# Altium schematic symbol library WCAP-HSG5.SchLib: 27 symbols
Pins are listed as number, name and electrical type; pins without a type are passive.

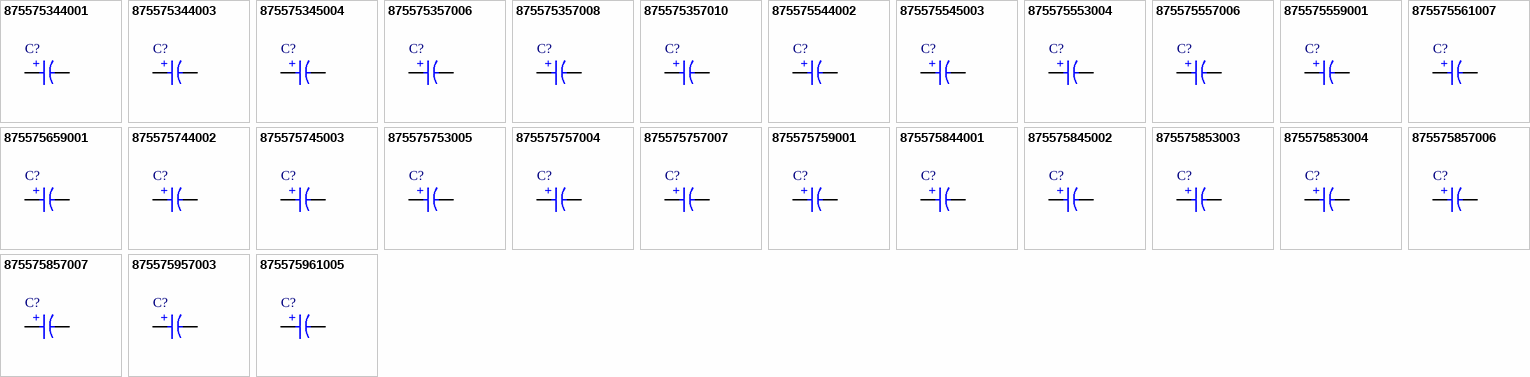
[diagram p0: symbols 875575344001 to 875575961005]

## 875575344001
designator C?, comment 100uF  (value not drawn)
WCAP-HSG5 Aluminum Hybrid Polymer Capacitor, SMT, D6.3 x H5.8 mm, 100uF, 16V; Manufacturer Part Number: 875575344001; Manufacturer: Wurth Elektronik; Dissipation Factor: 16%; Endurance: 10000h; ESR: 50mOhm; Leakage Current: 16uA; Ripple Current: 1300mA; Category: Aluminum Hybrid Polymer Capacitors; Match Code: WCAP-HSG5; ComponentLink1Description: Website Link; ComponentLink1URL: https://www.we-online.com/redexpert/article/875575344001?ad; ComponentLink2Description: Datasheet Link; ComponentLink2URL: https://www.we-online.com/redexpert/spec/875575344001?ad; Mount: Surface Mount; Min Operating Temperature: -55°C; Max Operating Temperature: 105°C; Packaging: Tape and Reel; Case/Size Code: D6.3 x H5.8 mm; Height: 5.8mm; Diameter: 6.3mm; Capacitance: 100uF; Rated Voltage (DC): 16V
footprint WCAP-HSG5_D6.3H5.8
simulation model 875575344001_100uF
pins: 1 P, 2 N
text: +

## 875575344003
designator C?, comment 150uF  (value not drawn)
WCAP-HSG5 Aluminum Hybrid Polymer Capacitor, SMT, D6.3 x H5.8 mm, 150uF, 16V; Manufacturer Part Number: 875575344003; Manufacturer: Wurth Elektronik; Dissipation Factor: 16%; Endurance: 10000h; ESR: 50mOhm; Leakage Current: 24uA; Ripple Current: 1300mA; Category: Aluminum Hybrid Polymer Capacitors; Match Code: WCAP-HSG5; ComponentLink1Description: Website Link; ComponentLink1URL: https://www.we-online.com/redexpert/article/875575344003?ad; ComponentLink2Description: Datasheet Link; ComponentLink2URL: https://www.we-online.com/redexpert/spec/875575344003?ad; Mount: Surface Mount; Min Operating Temperature: -55°C; Max Operating Temperature: 105°C; Packaging: Tape and Reel; Case/Size Code: D6.3 x H5.8 mm; Height: 5.8mm; Diameter: 6.3mm; Capacitance: 150uF; Rated Voltage (DC): 16V
footprint WCAP-HSG5_D6.3H5.8
simulation model 875575344003_150uF
pins: 1 P, 2 N
text: +

## 875575345004
designator C?, comment 220uF  (value not drawn)
WCAP-HSG5 Aluminum Hybrid Polymer Capacitor, SMT, D6.3 x H7.7 mm, 220uF, 16V; Manufacturer Part Number: 875575345004; Manufacturer: Wurth Elektronik; Dissipation Factor: 16%; Endurance: 10000h; ESR: 30mOhm; Leakage Current: 35.2uA; Ripple Current: 2000mA; Category: Aluminum Hybrid Polymer Capacitors; Match Code: WCAP-HSG5; ComponentLink1Description: Website Link; ComponentLink1URL: https://www.we-online.com/redexpert/article/875575345004?ad; ComponentLink2Description: Datasheet Link; ComponentLink2URL: https://www.we-online.com/redexpert/spec/875575345004?ad; Mount: Surface Mount; Min Operating Temperature: -55°C; Max Operating Temperature: 105°C; Packaging: Tape and Reel; Case/Size Code: D6.3 x H7.7 mm; Height: 7.7mm; Diameter: 6.3mm; Capacitance: 220uF; Rated Voltage (DC): 16V
footprint WCAP-HSG5_D6.3H7.7
simulation model 875575345004_220uF
pins: 1 P, 2 N
text: +

## 875575357006
designator C?, comment 330uF  (value not drawn)
WCAP-HSG5 Aluminum Hybrid Polymer Capacitor, SMT, D10 x H10.5 mm, 330uF, 16V; Manufacturer Part Number: 875575357006; Manufacturer: Wurth Elektronik; Dissipation Factor: 16%; Endurance: 10000h; ESR: 20mOhm; Leakage Current: 52.8uA; Ripple Current: 2500mA; Category: Aluminum Hybrid Polymer Capacitors; Match Code: WCAP-HSG5; ComponentLink1Description: Website Link; ComponentLink1URL: https://www.we-online.com/redexpert/article/875575357006?ad; ComponentLink2Description: Datasheet Link; ComponentLink2URL: https://www.we-online.com/redexpert/spec/875575357006?ad; Mount: Surface Mount; Min Operating Temperature: -55°C; Max Operating Temperature: 105°C; Packaging: Tape and Reel; Case/Size Code: D10 x H10.5 mm; Height: 10.5mm; Diameter: 10mm; Capacitance: 330uF; Rated Voltage (DC): 16V
footprint WCAP-HSG5_D10H10.5
simulation model 875575357006_330uF
pins: 1 P, 2 N
text: +

## 875575357008
designator C?, comment 470uF  (value not drawn)
WCAP-HSG5 Aluminum Hybrid Polymer Capacitor, SMT, D10 x H10.5 mm, 470uF, 16V; Manufacturer Part Number: 875575357008; Manufacturer: Wurth Elektronik; Dissipation Factor: 16%; Endurance: 10000h; ESR: 20mOhm; Leakage Current: 75.2uA; Ripple Current: 2500mA; Category: Aluminum Hybrid Polymer Capacitors; Match Code: WCAP-HSG5; ComponentLink1Description: Website Link; ComponentLink1URL: https://www.we-online.com/redexpert/article/875575357008?ad; ComponentLink2Description: Datasheet Link; ComponentLink2URL: https://www.we-online.com/redexpert/spec/875575357008?ad; Mount: Surface Mount; Min Operating Temperature: -55°C; Max Operating Temperature: 105°C; Packaging: Tape and Reel; Case/Size Code: D10 x H10.5 mm; Height: 10.5mm; Diameter: 10mm; Capacitance: 470uF; Rated Voltage (DC): 16V
footprint WCAP-HSG5_D10H10.5
simulation model 875575357008_470uF
pins: 1 P, 2 N
text: +

## 875575357010
designator C?, comment 560uF  (value not drawn)
WCAP-HSG5 Aluminum Hybrid Polymer Capacitor, SMT, D10 x H10.5 mm, 560uF, 16V; Manufacturer Part Number: 875575357010; Manufacturer: Wurth Elektronik; Dissipation Factor: 16%; Endurance: 10000h; ESR: 20mOhm; Leakage Current: 89.6uA; Ripple Current: 2500mA; Category: Aluminum Hybrid Polymer Capacitors; Match Code: WCAP-HSG5; ComponentLink1Description: Website Link; ComponentLink1URL: https://www.we-online.com/redexpert/article/875575357010?ad; ComponentLink2Description: Datasheet Link; ComponentLink2URL: https://www.we-online.com/redexpert/spec/875575357010?ad; Mount: Surface Mount; Min Operating Temperature: -55°C; Max Operating Temperature: 105°C; Packaging: Tape and Reel; Case/Size Code: D10 x H10.5 mm; Height: 10.5mm; Diameter: 10mm; Capacitance: 560uF; Rated Voltage (DC): 16V
footprint WCAP-HSG5_D10H10.5
simulation model 875575357010_560uF
pins: 1 P, 2 N
text: +

## 875575544002
designator C?, comment 56uF  (value not drawn)
WCAP-HSG5 Aluminum Hybrid Polymer Capacitor, SMT, D6.3 x H5.8 mm, 56uF, 25V; Manufacturer Part Number: 875575544002; Manufacturer: Wurth Elektronik; Dissipation Factor: 14%; Endurance: 10000h; ESR: 50mOhm; Leakage Current: 14uA; Ripple Current: 1300mA; Category: Aluminum Hybrid Polymer Capacitors; Match Code: WCAP-HSG5; ComponentLink1Description: Website Link; ComponentLink1URL: https://www.we-online.com/redexpert/article/875575544002?ad; ComponentLink2Description: Datasheet Link; ComponentLink2URL: https://www.we-online.com/redexpert/spec/875575544002?ad; Mount: Surface Mount; Min Operating Temperature: -55°C; Max Operating Temperature: 105°C; Packaging: Tape and Reel; Case/Size Code: D6.3 x H5.8 mm; Height: 5.8mm; Diameter: 6.3mm; Capacitance: 56uF; Rated Voltage (DC): 25V
footprint WCAP-HSG5_D6.3H5.8
simulation model 875575544002_56uF
pins: 1 P, 2 N
text: +

## 875575545003
designator C?, comment 100uF  (value not drawn)
WCAP-HSG5 Aluminum Hybrid Polymer Capacitor, SMT, D6.3 x H7.7 mm, 100uF, 25V; Manufacturer Part Number: 875575545003; Manufacturer: Wurth Elektronik; Dissipation Factor: 14%; Endurance: 10000h; ESR: 30mOhm; Leakage Current: 25uA; Ripple Current: 2000mA; Category: Aluminum Hybrid Polymer Capacitors; Match Code: WCAP-HSG5; ComponentLink1Description: Website Link; ComponentLink1URL: https://www.we-online.com/redexpert/article/875575545003?ad; ComponentLink2Description: Datasheet Link; ComponentLink2URL: https://www.we-online.com/redexpert/spec/875575545003?ad; Mount: Surface Mount; Min Operating Temperature: -55°C; Max Operating Temperature: 105°C; Packaging: Tape and Reel; Case/Size Code: D6.3 x H7.7 mm; Height: 7.7mm; Diameter: 6.3mm; Capacitance: 100uF; Rated Voltage (DC): 25V
footprint WCAP-HSG5_D6.3H7.7
simulation model 875575545003_100uF
pins: 1 P, 2 N
text: +

## 875575553004
designator C?, comment 220uF  (value not drawn)
WCAP-HSG5 Aluminum Hybrid Polymer Capacitor, SMT, D8 x H10.5 mm, 220uF, 25V; Manufacturer Part Number: 875575553004; Manufacturer: Wurth Elektronik; Dissipation Factor: 14%; Endurance: 10000h; ESR: 27mOhm; Leakage Current: 55uA; Ripple Current: 2300mA; Category: Aluminum Hybrid Polymer Capacitors; Match Code: WCAP-HSG5; ComponentLink1Description: Website Link; ComponentLink1URL: https://www.we-online.com/redexpert/article/875575553004?ad; ComponentLink2Description: Datasheet Link; ComponentLink2URL: https://www.we-online.com/redexpert/spec/875575553004?ad; Mount: Surface Mount; Min Operating Temperature: -55°C; Max Operating Temperature: 105°C; Packaging: Tape and Reel; Case/Size Code: D8 x H10.5 mm; Height: 10.5mm; Diameter: 8mm; Capacitance: 220uF; Rated Voltage (DC): 25V
footprint WCAP-HSG5_D8H10.5
simulation model 875575553004_220uF
pins: 1 P, 2 N
text: +

## 875575557006
designator C?, comment 330uF  (value not drawn)
WCAP-HSG5 Aluminum Hybrid Polymer Capacitor, SMT, D10 x H10.5 mm, 330uF, 25V; Manufacturer Part Number: 875575557006; Manufacturer: Wurth Elektronik; Dissipation Factor: 14%; Endurance: 10000h; ESR: 20mOhm; Leakage Current: 82.5uA; Ripple Current: 2500mA; Category: Aluminum Hybrid Polymer Capacitors; Match Code: WCAP-HSG5; ComponentLink1Description: Website Link; ComponentLink1URL: https://www.we-online.com/redexpert/article/875575557006?ad; ComponentLink2Description: Datasheet Link; ComponentLink2URL: https://www.we-online.com/redexpert/spec/875575557006?ad; Mount: Surface Mount; Min Operating Temperature: -55°C; Max Operating Temperature: 105°C; Packaging: Tape and Reel; Case/Size Code: D10 x H10.5 mm; Height: 10.5mm; Diameter: 10mm; Capacitance: 330uF; Rated Voltage (DC): 25V
footprint WCAP-HSG5_D10H10.5
simulation model 875575557006_330uF
pins: 1 P, 2 N
text: +

## 875575559001
designator C?, comment 33uF  (value not drawn)
WCAP-HSG5 Aluminum Hybrid Polymer Capacitor, SMT, D5 x H5.8 mm, 33uF, 25V; Manufacturer Part Number: 875575559001; Manufacturer: Wurth Elektronik; Dissipation Factor: 14%; Endurance: 10000h; ESR: 80mOhm; Leakage Current: 8.3uA; Ripple Current: 900mA; Category: Aluminum Hybrid Polymer Capacitors; Match Code: WCAP-HSG5; ComponentLink1Description: Website Link; ComponentLink1URL: https://www.we-online.com/redexpert/article/875575559001?ad; ComponentLink2Description: Datasheet Link; ComponentLink2URL: https://www.we-online.com/redexpert/spec/875575559001?ad; Mount: Surface Mount; Min Operating Temperature: -55°C; Max Operating Temperature: 105°C; Packaging: Tape and Reel; Case/Size Code: D5 x H5.8 mm; Height: 5.8mm; Diameter: 5mm; Capacitance: 33uF; Rated Voltage (DC): 25V
footprint WCAP-HSG5_D5H5.8
simulation model 875575559001_33uF
pins: 1 P, 2 N
text: +

## 875575561007
designator C?, comment 470uF  (value not drawn)
WCAP-HSG5 Aluminum Hybrid Polymer Capacitor, SMT, D10 x H12.4 mm, 470uF, 25V; Manufacturer Part Number: 875575561007; Manufacturer: Wurth Elektronik; Dissipation Factor: 14%; Endurance: 10000h; ESR: 16mOhm; Leakage Current: 117.5uA; Ripple Current: 2800mA; Category: Aluminum Hybrid Polymer Capacitors; Match Code: WCAP-HSG5; ComponentLink1Description: Website Link; ComponentLink1URL: https://www.we-online.com/redexpert/article/875575561007?ad; ComponentLink2Description: Datasheet Link; ComponentLink2URL: https://www.we-online.com/redexpert/spec/875575561007?ad; Mount: Surface Mount; Min Operating Temperature: -55°C; Max Operating Temperature: 105°C; Packaging: Tape and Reel; Case/Size Code: D10 x H12.4 mm; Height: 12.4mm; Diameter: 10mm; Capacitance: 470uF; Rated Voltage (DC): 25V
footprint WCAP-HSG5_D10H12.4
simulation model 875575561007_470uF
pins: 1 P, 2 N
text: +

## 875575659001
designator C?, comment 22uF  (value not drawn)
WCAP-HSG5 Aluminum Hybrid Polymer Capacitor, SMT, D5 x H5.8 mm, 22uF, 35V; Manufacturer Part Number: 875575659001; Manufacturer: Wurth Elektronik; Dissipation Factor: 12%; Endurance: 10000h; ESR: 100mOhm; Leakage Current: 7.7uA; Ripple Current: 900mA; Category: Aluminum Hybrid Polymer Capacitors; Match Code: WCAP-HSG5; ComponentLink1Description: Website Link; ComponentLink1URL: https://www.we-online.com/redexpert/article/875575659001?ad; ComponentLink2Description: Datasheet Link; ComponentLink2URL: https://www.we-online.com/redexpert/spec/875575659001?ad; Mount: Surface Mount; Min Operating Temperature: -55°C; Max Operating Temperature: 105°C; Packaging: Tape and Reel; Case/Size Code: D5 x H5.8 mm; Height: 5.8mm; Diameter: 5mm; Capacitance: 22uF; Rated Voltage (DC): 35V
footprint WCAP-HSG5_D5H5.8
pins: 1 P, 2 N
text: +

## 875575744002
designator C?, comment 22uF  (value not drawn)
WCAP-HSG5 Aluminum Hybrid Polymer Capacitor, SMT, D6.3 x H5.8 mm, 22uF, 50V; Manufacturer Part Number: 875575744002; Manufacturer: Wurth Elektronik; Dissipation Factor: 10%; Endurance: 10000h; ESR: 80mOhm; Leakage Current: 11uA; Ripple Current: 1100mA; Category: Aluminum Hybrid Polymer Capacitors; Match Code: WCAP-HSG5; ComponentLink1Description: Website Link; ComponentLink1URL: https://www.we-online.com/redexpert/article/875575744002?ad; ComponentLink2Description: Datasheet Link; ComponentLink2URL: https://www.we-online.com/redexpert/spec/875575744002?ad; Mount: Surface Mount; Min Operating Temperature: -55°C; Max Operating Temperature: 105°C; Packaging: Tape and Reel; Case/Size Code: D6.3 x H5.8 mm; Height: 5.8mm; Diameter: 6.3mm; Capacitance: 22uF; Rated Voltage (DC): 50V
footprint WCAP-HSG5_D6.3H5.8
simulation model 875575744002_22uF
pins: 1 P, 2 N
text: +

## 875575745003
designator C?, comment 33uF  (value not drawn)
WCAP-HSG5 Aluminum Hybrid Polymer Capacitor, SMT, D6.3 x H7.7 mm, 33uF, 50V; Manufacturer Part Number: 875575745003; Manufacturer: Wurth Elektronik; Dissipation Factor: 10%; Endurance: 10000h; ESR: 40mOhm; Leakage Current: 16.5uA; Ripple Current: 1600mA; Category: Aluminum Hybrid Polymer Capacitors; Match Code: WCAP-HSG5; ComponentLink1Description: Website Link; ComponentLink1URL: https://www.we-online.com/redexpert/article/875575745003?ad; ComponentLink2Description: Datasheet Link; ComponentLink2URL: https://www.we-online.com/redexpert/spec/875575745003?ad; Mount: Surface Mount; Min Operating Temperature: -55°C; Max Operating Temperature: 105°C; Packaging: Tape and Reel; Case/Size Code: D6.3 x H7.7 mm; Height: 7.7mm; Diameter: 6.3mm; Capacitance: 33uF; Rated Voltage (DC): 50V
footprint WCAP-HSG5_D6.3H7.7
simulation model 875575745003_33uF
pins: 1 P, 2 N
text: +

## 875575753005
designator C?, comment 68uF  (value not drawn)
WCAP-HSG5 Aluminum Hybrid Polymer Capacitor, SMT, D8 x H10.5 mm, 68uF, 50V; Manufacturer Part Number: 875575753005; Manufacturer: Wurth Elektronik; Dissipation Factor: 10%; Endurance: 10000h; ESR: 30mOhm; Leakage Current: 34uA; Ripple Current: 1800mA; Category: Aluminum Hybrid Polymer Capacitors; Match Code: WCAP-HSG5; ComponentLink1Description: Website Link; ComponentLink1URL: https://www.we-online.com/redexpert/article/875575753005?ad; ComponentLink2Description: Datasheet Link; ComponentLink2URL: https://www.we-online.com/redexpert/spec/875575753005?ad; Mount: Surface Mount; Min Operating Temperature: -55°C; Max Operating Temperature: 105°C; Packaging: Tape and Reel; Case/Size Code: D8 x H10.5 mm; Height: 10.5mm; Diameter: 8mm; Capacitance: 68uF; Rated Voltage (DC): 50V
footprint WCAP-HSG5_D8H10.5
simulation model 875575753005_68uF
pins: 1 P, 2 N
text: +

## 875575757004
designator C?, comment 56uF  (value not drawn)
WCAP-HSG5 Aluminum Hybrid Polymer Capacitor, SMT, D10 x H10.5 mm, 56uF, 50V; Manufacturer Part Number: 875575757004; Manufacturer: Wurth Elektronik; Dissipation Factor: 10%; Endurance: 10000h; ESR: 28mOhm; Leakage Current: 28uA; Ripple Current: 2000mA; Category: Aluminum Hybrid Polymer Capacitors; Match Code: WCAP-HSG5; ComponentLink1Description: Website Link; ComponentLink1URL: https://www.we-online.com/redexpert/article/875575757004?ad; ComponentLink2Description: Datasheet Link; ComponentLink2URL: https://www.we-online.com/redexpert/spec/875575757004?ad; Mount: Surface Mount; Min Operating Temperature: -55°C; Max Operating Temperature: 105°C; Packaging: Tape and Reel; Case/Size Code: D10 x H10.5 mm; Height: 10.5mm; Diameter: 10mm; Capacitance: 56uF; Rated Voltage (DC): 50V
footprint WCAP-HSG5_D10H10.5
simulation model 875575757004_56uF
pins: 1 P, 2 N
text: +

## 875575757007
designator C?, comment 100uF  (value not drawn)
WCAP-HSG5 Aluminum Hybrid Polymer Capacitor, SMT, D10 x H10.5 mm, 100uF, 50V; Manufacturer Part Number: 875575757007; Manufacturer: Wurth Elektronik; Dissipation Factor: 10%; Endurance: 10000h; ESR: 28mOhm; Leakage Current: 50uA; Ripple Current: 2000mA; Category: Aluminum Hybrid Polymer Capacitors; Match Code: WCAP-HSG5; ComponentLink1Description: Website Link; ComponentLink1URL: https://www.we-online.com/redexpert/article/875575757007?ad; ComponentLink2Description: Datasheet Link; ComponentLink2URL: https://www.we-online.com/redexpert/spec/875575757007?ad; Mount: Surface Mount; Min Operating Temperature: -55°C; Max Operating Temperature: 105°C; Packaging: Tape and Reel; Case/Size Code: D10 x H10.5 mm; Height: 10.5mm; Diameter: 10mm; Capacitance: 100uF; Rated Voltage (DC): 50V
footprint WCAP-HSG5_D10H10.5
simulation model 875575757007_100uF
pins: 1 P, 2 N
text: +

## 875575759001
designator C?, comment 10uF  (value not drawn)
WCAP-HSG5 Aluminum Hybrid Polymer Capacitor, SMT, D5 x H5.8 mm, 10uF, 50V; Manufacturer Part Number: 875575759001; Manufacturer: Wurth Elektronik; Dissipation Factor: 10%; Endurance: 10000h; ESR: 120mOhm; Leakage Current: 5uA; Ripple Current: 750mA; Category: Aluminum Hybrid Polymer Capacitors; Match Code: WCAP-HSG5; ComponentLink1Description: Website Link; ComponentLink1URL: https://www.we-online.com/redexpert/article/875575759001?ad; ComponentLink2Description: Datasheet Link; ComponentLink2URL: https://www.we-online.com/redexpert/spec/875575759001?ad; Mount: Surface Mount; Min Operating Temperature: -55°C; Max Operating Temperature: 105°C; Packaging: Tape and Reel; Case/Size Code: D5 x H5.8 mm; Height: 5.8mm; Diameter: 5mm; Capacitance: 10uF; Rated Voltage (DC): 50V
footprint WCAP-HSG5_D5H5.8
simulation model 875575759001_10uF
pins: 1 P, 2 N
text: +

## 875575844001
designator C?, comment 10uF  (value not drawn)
WCAP-HSG5 Aluminum Hybrid Polymer Capacitor, SMT, D6.3 x H5.8 mm, 10uF, 63V; Manufacturer Part Number: 875575844001; Manufacturer: Wurth Elektronik; Dissipation Factor: 8%; Endurance: 10000h; ESR: 120mOhm; Leakage Current: 6.3uA; Ripple Current: 1000mA; Category: Aluminum Hybrid Polymer Capacitors; Match Code: WCAP-HSG5; ComponentLink1Description: Website Link; ComponentLink1URL: https://www.we-online.com/redexpert/article/875575844001?ad; ComponentLink2Description: Datasheet Link; ComponentLink2URL: https://www.we-online.com/redexpert/spec/875575844001?ad; Mount: Surface Mount; Min Operating Temperature: -55°C; Max Operating Temperature: 105°C; Packaging: Tape and Reel; Case/Size Code: D6.3 x H5.8 mm; Height: 5.8mm; Diameter: 6.3mm; Capacitance: 10uF; Rated Voltage (DC): 63V
footprint WCAP-HSG5_D6.3H5.8
simulation model 875575844001_10uF
pins: 1 P, 2 N
text: +

## 875575845002
designator C?, comment 22uF  (value not drawn)
WCAP-HSG5 Aluminum Hybrid Polymer Capacitor, SMT, D6.3 x H7.7 mm, 22uF, 63V; Manufacturer Part Number: 875575845002; Manufacturer: Wurth Elektronik; Dissipation Factor: 8%; Endurance: 10000h; ESR: 80mOhm; Leakage Current: 13.9uA; Ripple Current: 1500mA; Category: Aluminum Hybrid Polymer Capacitors; Match Code: WCAP-HSG5; ComponentLink1Description: Website Link; ComponentLink1URL: https://www.we-online.com/redexpert/article/875575845002?ad; ComponentLink2Description: Datasheet Link; ComponentLink2URL: https://www.we-online.com/redexpert/spec/875575845002?ad; Mount: Surface Mount; Min Operating Temperature: -55°C; Max Operating Temperature: 105°C; Packaging: Tape and Reel; Case/Size Code: D6.3 x H7.7 mm; Height: 7.7mm; Diameter: 6.3mm; Capacitance: 22uF; Rated Voltage (DC): 63V
footprint WCAP-HSG5_D6.3H7.7
simulation model 875575845002_22uF
pins: 1 P, 2 N
text: +

## 875575853003
designator C?, comment 33uF  (value not drawn)
WCAP-HSG5 Aluminum Hybrid Polymer Capacitor, SMT, D8 x H10.5 mm, 33uF, 63V; Manufacturer Part Number: 875575853003; Manufacturer: Wurth Elektronik; Dissipation Factor: 8%; Endurance: 10000h; ESR: 40mOhm; Leakage Current: 20.8uA; Ripple Current: 1700mA; Category: Aluminum Hybrid Polymer Capacitors; Match Code: WCAP-HSG5; ComponentLink1Description: Website Link; ComponentLink1URL: https://www.we-online.com/redexpert/article/875575853003?ad; ComponentLink2Description: Datasheet Link; ComponentLink2URL: https://www.we-online.com/redexpert/spec/875575853003?ad; Mount: Surface Mount; Min Operating Temperature: -55°C; Max Operating Temperature: 105°C; Packaging: Tape and Reel; Case/Size Code: D8 x H10.5 mm; Height: 10.5mm; Diameter: 8mm; Capacitance: 33uF; Rated Voltage (DC): 63V
footprint WCAP-HSG5_D8H10.5
simulation model 875575853003_33uF
pins: 1 P, 2 N
text: +

## 875575853004
designator C?, comment 47uF  (value not drawn)
WCAP-HSG5 Aluminum Hybrid Polymer Capacitor, SMT, D8 x H10.5 mm, 47uF, 63V; Manufacturer Part Number: 875575853004; Manufacturer: Wurth Elektronik; Dissipation Factor: 8%; Endurance: 10000h; ESR: 40mOhm; Leakage Current: 29.6uA; Ripple Current: 1700mA; Category: Aluminum Hybrid Polymer Capacitors; Match Code: WCAP-HSG5; ComponentLink1Description: Website Link; ComponentLink1URL: https://www.we-online.com/redexpert/article/875575853004?ad; ComponentLink2Description: Datasheet Link; ComponentLink2URL: https://www.we-online.com/redexpert/spec/875575853004?ad; Mount: Surface Mount; Min Operating Temperature: -55°C; Max Operating Temperature: 105°C; Packaging: Tape and Reel; Case/Size Code: D8 x H10.5 mm; Height: 10.5mm; Diameter: 8mm; Capacitance: 47uF; Rated Voltage (DC): 63V
footprint WCAP-HSG5_D8H10.5
simulation model 875575853004_47uF
pins: 1 P, 2 N
text: +

## 875575857006
designator C?, comment 56uF  (value not drawn)
WCAP-HSG5 Aluminum Hybrid Polymer Capacitor, SMT, D10 x H10.5 mm, 56uF, 63V; Manufacturer Part Number: 875575857006; Manufacturer: Wurth Elektronik; Dissipation Factor: 8%; Endurance: 10000h; ESR: 30mOhm; Leakage Current: 35.3uA; Ripple Current: 1800mA; Category: Aluminum Hybrid Polymer Capacitors; Match Code: WCAP-HSG5; ComponentLink1Description: Website Link; ComponentLink1URL: https://www.we-online.com/redexpert/article/875575857006?ad; ComponentLink2Description: Datasheet Link; ComponentLink2URL: https://www.we-online.com/redexpert/spec/875575857006?ad; Mount: Surface Mount; Min Operating Temperature: -55°C; Max Operating Temperature: 105°C; Packaging: Tape and Reel; Case/Size Code: D10 x H10.5 mm; Height: 10.5mm; Diameter: 10mm; Capacitance: 56uF; Rated Voltage (DC): 63V
footprint WCAP-HSG5_D10H10.5
simulation model 875575857006_56uF
pins: 1 P, 2 N
text: +

## 875575857007
designator C?, comment 68uF  (value not drawn)
WCAP-HSG5 Aluminum Hybrid Polymer Capacitor, SMT, D10 x H10.5 mm, 68uF, 63V; Manufacturer Part Number: 875575857007; Manufacturer: Wurth Elektronik; Dissipation Factor: 8%; Endurance: 10000h; ESR: 30mOhm; Leakage Current: 42.8uA; Ripple Current: 1800mA; Category: Aluminum Hybrid Polymer Capacitors; Match Code: WCAP-HSG5; ComponentLink1Description: Website Link; ComponentLink1URL: https://www.we-online.com/redexpert/article/875575857007?ad; ComponentLink2Description: Datasheet Link; ComponentLink2URL: https://www.we-online.com/redexpert/spec/875575857007?ad; Mount: Surface Mount; Min Operating Temperature: -55°C; Max Operating Temperature: 105°C; Packaging: Tape and Reel; Case/Size Code: D10 x H10.5 mm; Height: 10.5mm; Diameter: 10mm; Capacitance: 68uF; Rated Voltage (DC): 63V
footprint WCAP-HSG5_D10H10.5
simulation model 875575857007_68uF
pins: 1 P, 2 N
text: +

## 875575957003
designator C?, comment 22uF  (value not drawn)
WCAP-HSG5 Aluminum Hybrid Polymer Capacitor, SMT, D10 x H10.5 mm, 22uF, 100V; Manufacturer Part Number: 875575957003; Manufacturer: Wurth Elektronik; Dissipation Factor: 8%; Endurance: 10000h; ESR: 45mOhm; Leakage Current: 22uA; Ripple Current: 1500mA; Category: Aluminum Hybrid Polymer Capacitors; Match Code: WCAP-HSG5; ComponentLink1Description: Website Link; ComponentLink1URL: https://www.we-online.com/redexpert/article/875575957003?ad; ComponentLink2Description: Datasheet Link; ComponentLink2URL: https://www.we-online.com/redexpert/spec/875575957003?ad; Mount: Surface Mount; Min Operating Temperature: -55°C; Max Operating Temperature: 105°C; Packaging: Tape and Reel; Case/Size Code: D10 x H10.5 mm; Height: 10.5mm; Diameter: 10mm; Capacitance: 22uF; Rated Voltage (DC): 100V
footprint WCAP-HSG5_D10H10.5
simulation model 875575957003_22uF
pins: 1 P, 2 N
text: +

## 875575961005
designator C?, comment 33uF  (value not drawn)
WCAP-HSG5 Aluminum Hybrid Polymer Capacitor, SMT, D10 x H12.4 mm, 33uF, 100V; Manufacturer Part Number: 875575961005; Manufacturer: Wurth Elektronik; Dissipation Factor: 8%; Endurance: 10000h; ESR: 40mOhm; Leakage Current: 33uA; Ripple Current: 1600mA; Category: Aluminum Hybrid Polymer Capacitors; Match Code: WCAP-HSG5; ComponentLink1Description: Website Link; ComponentLink1URL: https://www.we-online.com/redexpert/article/875575961005?ad; ComponentLink2Description: Datasheet Link; ComponentLink2URL: https://www.we-online.com/redexpert/spec/875575961005?ad; Mount: Surface Mount; Min Operating Temperature: -55°C; Max Operating Temperature: 105°C; Packaging: Tape and Reel; Case/Size Code: D10 x H12.4 mm; Height: 12.4mm; Diameter: 10mm; Capacitance: 33uF; Rated Voltage (DC): 100V
footprint WCAP-HSG5_D10H12.4
simulation model 875575961005_33uF
pins: 1 P, 2 N
text: +